# EAGLE library part RELE-2P (library TABOR K1)
Miniaturne rele OMRON - 2 prepinacie kontakty
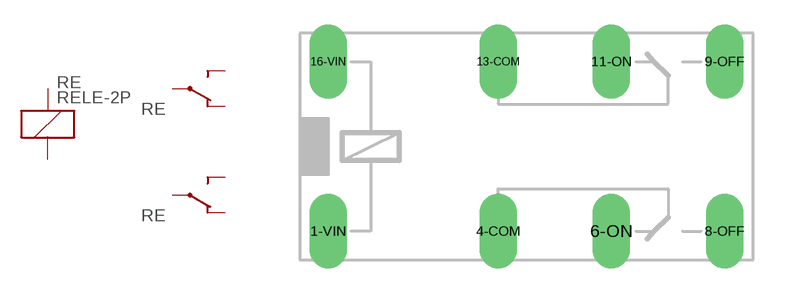
[diagram p7: symbol with the pads of RELE-351; footprint RELE-351]

Designator prefix RE; gates 1=RELE-CIEVKA 2=RELE-PREP 3=RELE-PREP

## RELE-2P351  [RELE-351]
1-VIN  1:1  pas
4-COM  2:COM  pas
6-ON  2:ON  pas
8-OFF  2:OFF  pas
9-OFF  3:OFF  pas
11-ON  3:ON  pas
13-COM  3:COM  pas
16-VIN  1:2  pas

## Footprint RELE-351 (pad centres in mm)
Rele OMRON typ 351 s 2 prepinacimi kontaktmi
drill 1.016 pad 1.676 long: 1-VIN -3.81,-3.81; 4-COM 3.81,-3.81; 6-ON 8.89,-3.81; 8-OFF 13.97,-3.81; 9-OFF 13.97,3.81; 11-ON 8.89,3.81; 13-COM 3.81,3.81; 16-VIN -3.81,3.81